# EAGLE library part 74LVC2G00GT,115 (library 74LVC2G00GT_115)
74LVC2G00 - Dual 2-input NAND gate@en-us Source: Datasheet <https://assets.nexperia.com/documents/data-sheet/74LVC2G00.pdf>
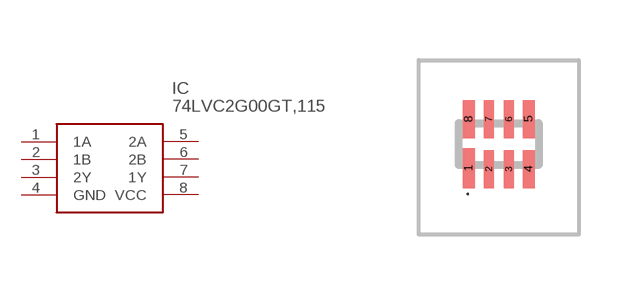
[diagram p0: symbol with the pads of 74AVC9112GTX; footprint 74AVC9112GTX]

Designator prefix IC

## 74LVC2G00GT,115 (Description: 74LVC2G00 - Dual 2-input NAND gate@en-us; Height: 0.5mm; Manufacturer_Name: Nexperia; Manufacturer_Part_Number: 74LVC2G00GT,115; Mouser_Part_Number: 771-LVC2G00GT115; Mouser_Price-Stock: https://www.mouser.co.uk/ProductDetail/Nexperia/74LVC2G00GT115/?qs=me8TqzrmIYWD5dayJ1NSYA%3D%3D)  [74AVC9112GTX]
1  1A
2  1B
3  2Y
4  GND
5  2A
6  2B
7  1Y
8  VCC

## Footprint 74AVC9112GTX (pad centres in mm)
SOT833-1
smd 0.3 x 1: 1 -0.75,-0.6
smd 0.25 x 0.95: 2 -0.25,-0.625; 3 0.25,-0.625; 6 0.25,0.625; 7 -0.25,0.625
smd 0.3 x 0.95: 4 0.75,-0.625; 5 0.75,0.625; 8 -0.75,0.625